# EAGLE library part UCC27511DBVR (library NEON-BLADE-2024-new)
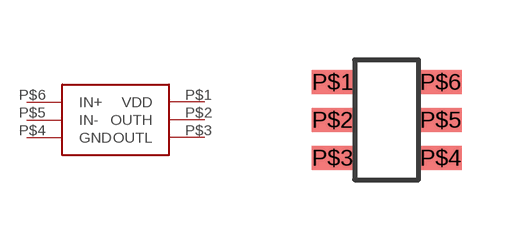
[diagram p42: symbol with the pads of UCC27511DBVR; footprint UCC27511DBVR]

Designator prefix -

## UCC27511DBVR  [UCC27511DBVR]
P$1  VDD
P$2  OUTH
P$3  OUTL
P$4  GND
P$5  IN-
P$6  IN+

## Footprint UCC27511DBVR (pad centres in mm)
smd 1.05 x 0.6: P$1 -1.35,0.95; P$2 -1.35,0; P$3 -1.35,-0.95; P$4 1.35,-0.95; P$5 1.35,0; P$6 1.35,0.95